# EAGLE library part 74*851 (library 74xx-eu)
16-to 1 line MULTIPLEXER
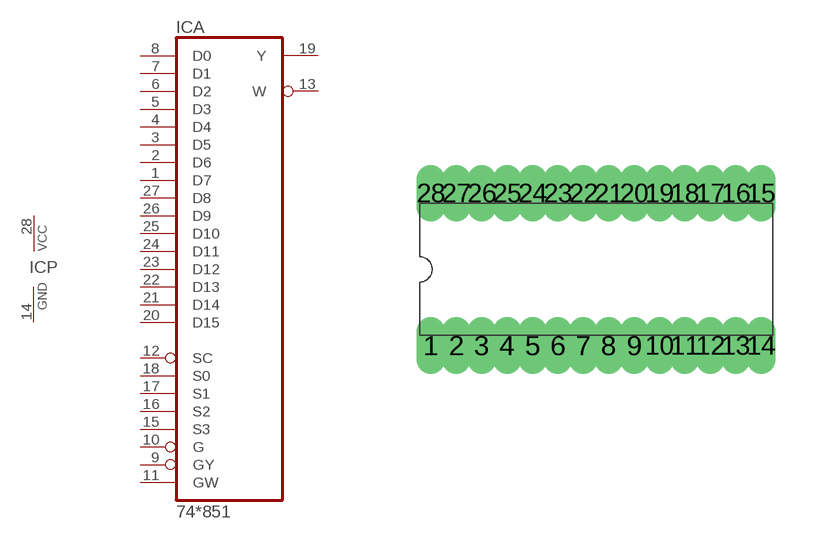
[diagram p311: symbol with the pads of DIL28-6; footprint DIL28-6]

Designator prefix IC; gates A=74851 P=PWRN

## 74851N, 74AS851N  [DIL28-6]
1  A:D7  in
2  A:D6  in
3  A:D5  in
4  A:D4  in
5  A:D3  in
6  A:D2  in
7  A:D1  in
8  A:D0  in
9  A:GY  in
10  A:G  in
11  A:GW  in
12  A:SC  in
13  A:W  hiz
14  P:GND  pwr
15  A:S3  in
16  A:S2  in
17  A:S1  in
18  A:S0  in
19  A:Y  hiz
20  A:D15  in
21  A:D14  in
22  A:D13  in
23  A:D12  in
24  A:D11  in
25  A:D10  in
26  A:D9  in
27  A:D8  in
28  P:VCC  pwr

## Footprint DIL28-6 (pad centres in mm)
Dual In Line Package 0.6 inch
drill 0.203 long: 1 -4.128,-1.905; 2 -3.493,-1.905; 3 -2.857,-1.905; 4 -2.223,-1.905; 5 -1.587,-1.905; 6 -0.953,-1.905; 7 -0.318,-1.905; 8 0.318,-1.905; 9 0.953,-1.905; 10 1.587,-1.905; 11 2.223,-1.905; 12 2.857,-1.905; 13 3.493,-1.905; 14 4.128,-1.905; 15 4.128,1.905; 16 3.493,1.905; 17 2.857,1.905; 18 2.223,1.905; 19 1.587,1.905; 20 0.953,1.905; 21 0.318,1.905; 22 -0.318,1.905; 23 -0.953,1.905; 24 -1.587,1.905; 25 -2.223,1.905; 26 -2.857,1.905; 27 -3.493,1.905; 28 -4.128,1.905